# EAGLE library part ARD-PRO-MINI-ORIENTERING (library joakim)
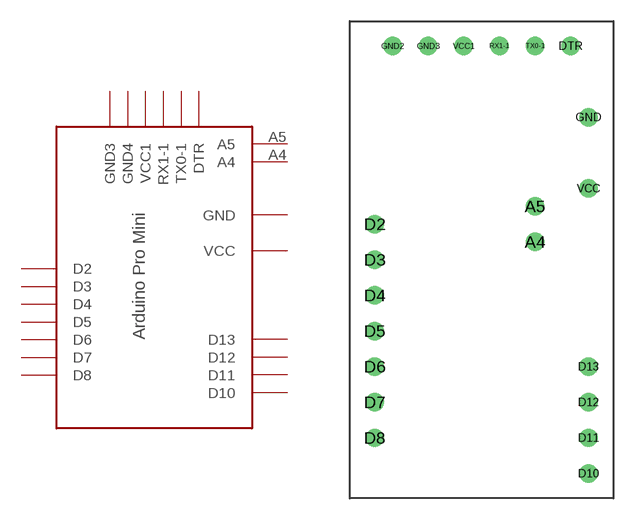
[diagram p33: symbol with the pads of ARD_PRO_MINI_ORIENTERING; footprint ARD_PRO_MINI_ORIENTERING]

Designator prefix -

## ARD-PRO-MINI-ORIENTERING  [ARD_PRO_MINI_ORIENTERING]
A4  A4
A5  A5
D2  D2
D3  D3
D4  D4
D5  D5
D6  D6
D7  D7
D8  D8
D10  D10
D11  D11
D12  D12
D13  D13
DTR  DTR
GND  GND
GND2  GND3
GND3  GND4
RX1-1  RX1-1
TX0-1  TX0-1
VCC  VCC
VCC1  VCC1

## Footprint ARD_PRO_MINI_ORIENTERING (pad centres in mm)
drill 0.8: A4 3.81,1.27; A5 3.81,3.81; D2 -7.62,2.54; D3 -7.62,0; D4 -7.62,-2.54; D5 -7.62,-5.08; D6 -7.62,-7.62; D7 -7.62,-10.16; D8 -7.62,-12.7; D10 7.62,-15.24; D11 7.62,-12.7; D12 7.62,-10.16; D13 7.62,-7.62; DTR 6.35,15.24; GND 7.62,10.16; GND2 -6.35,15.24; GND3 -3.81,15.24; RX1-1 1.27,15.24; TX0-1 3.81,15.24; VCC 7.62,5.08; VCC1 -1.27,15.24